# Altium schematic symbol library STR2P3LLH6.SchLib: 1 symbol
Pins are listed as number, name and electrical type; pins without a type are passive.

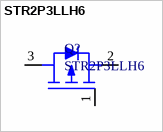
[diagram p0: symbol STR2P3LLH6]

## STR2P3LLH6
designator Q?
P-channel -30 V, 48 mΩ typICAL, -2 A STripFET™ H6 Power MOSFET in a SOT-23 package.
footprint SOT95P280X110-3N (SOT23, 3-Leads, Body 2.90x2.80mm, Pitch 0.95mm, IPC Medium Density)
pins: 1, 2, 3